# Altium footprint library libx.PcbLib: 18 footprints (part 1 of 2)
Each footprint in its own frame and in the unit in brackets; x right, y up, seen from the top. Pads: shape width x height; smd on the part's side, far side on the other; paste and mask are expansions set on the pad; w line width, h text height; cw(c..) or ccw(c..) is an arc to the next point about the centre after c.
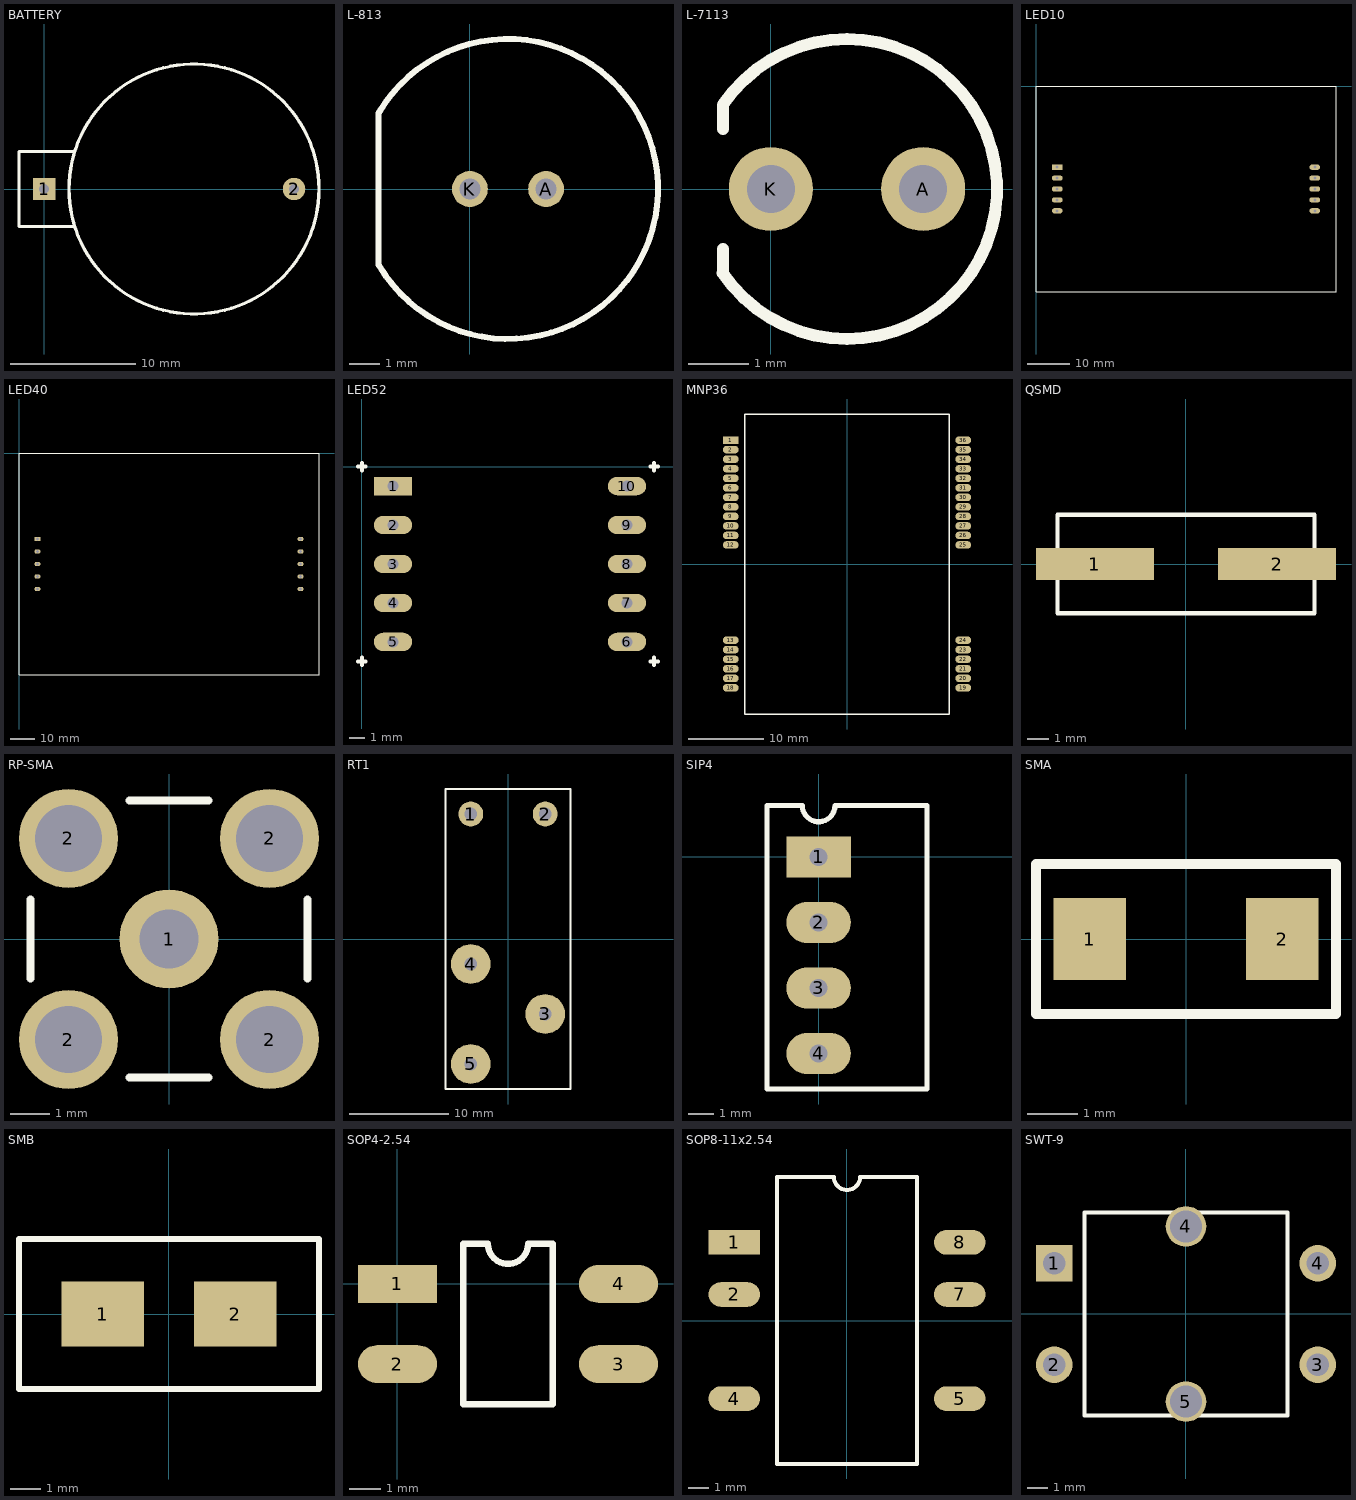
[diagram p0: the footprints below, top view; thin cyan lines are the x and y axes]

## BATTERY [mm]
pads (2):
  rect 1.8x1.8 hole 0.8: 1(0,0)
  round 1.8 hole 0.8: 2(20,0)
Top Overlay:
  circle w0.254: c12,0 r10
  lines w0.254: 2.4,-3 -2,-3 -2,3 2.4,3

## L-813 [mm]
pads (2):
  round 1.2 hole 0.7: A(2.54,0) K(0,0)
Top Overlay:
  lines w0.2: -3.048,-2.54 -3.048,2.54 ; -3.04,2.535 cw(c1.27,0) -3.018,-2.571

## L-7113 [mm]
pads (2):
  round 1.4 hole 0.8: A(2.54,0) K(0,0)
Top Overlay:
  lines w0.2: -0.801,-1.401 ccw(c1.27,0) -0.8,1.402 -0.8,1 ; -0.8,-1.4 -0.8,-1

## LED10 [mm]
pads (10):
  rect 2.5x1.2 hole 0.7: 1(4.95,-18.92)
  oval 2.5x1.2 hole 0.7: 2(4.95,-21.46) 3(4.95,-24) 4(4.95,-26.54) 5(4.95,-29.08) 6(65.05,-29.08) 7(65.05,-26.54) 8(65.05,-24) 9(65.05,-21.46) 10(65.05,-18.92)
Top Overlay:
  lines w0.2: 0,-48 0,0 70,0 70,-48 0,-48
3D body: height 12, standoff 0, extent 0,-48 70,0

## LED40 [mm]
pads (10):
  rect 2.5x1.8 hole 1.1: 1(7.5,-34.84)
  oval 2.5x1.8 hole 1.1: 2(7.5,-39.92) 3(7.5,-45) 4(7.5,-50.08) 5(7.5,-55.16) 6(114.5,-55.16) 7(114.5,-50.08) 8(114.5,-45) 9(114.5,-39.92) 10(114.5,-34.84)
Top Overlay:
  lines w0.2: 0,-90 122,-90 122,0 0,0 0,-90
3D body: height 15, standoff 0, extent 0,-90 122,0

## LED52 [mm]
pads (10):
  rect 2.5x1.2 hole 0.7: 1(2.032,-1.27)
  oval 2.5x1.2 hole 0.7: 2(2.032,-3.81) 3(2.032,-6.35) 4(2.032,-8.89) 5(2.032,-11.43) 6(17.282,-11.43) 7(17.282,-8.89) 8(17.282,-6.35) 9(17.282,-3.81) 10(17.282,-1.27)
Top Overlay:
  lines w0.254: -0.254,-12.7 0.254,-12.7 ; -0.254,0 0.254,0 ; 0,-12.954 0,-12.446 ; 0,-0.254 0,0.254 ; 18.796,-12.7 19.304,-12.7 ; 18.796,0 19.304,0 ; 19.05,-12.954 19.05,-12.446 ; 19.05,-0.254 19.05,0.254
3D body: height 8, standoff 0, extent 0,-12.7 19.05,0

## MNP36 [mm]
pads (36):
  rect 2.1x1 smd: 1(-15.5,16.51)
  oval 2.1x1 smd: 2(-15.5,15.24) 3(-15.5,13.97) 4(-15.5,12.7) 5(-15.5,11.43) 6(-15.5,10.16) 7(-15.5,8.89) 8(-15.5,7.62) 9(-15.5,6.35) 10(-15.5,5.08) 11(-15.5,3.81) 12(-15.5,2.54) 13(-15.5,-10.16) 14(-15.5,-11.43) 15(-15.5,-12.7) 16(-15.5,-13.97) 17(-15.5,-15.24) 18(-15.5,-16.51) 19(15.5,-16.51) 20(15.5,-15.24) 21(15.5,-13.97) 22(15.5,-12.7) 23(15.5,-11.43) 24(15.5,-10.16) 25(15.5,2.54) 26(15.5,3.81) 27(15.5,5.08) 28(15.5,6.35) 29(15.5,7.62) 30(15.5,8.89) 31(15.5,10.16) 32(15.5,11.43) 33(15.5,12.7) 34(15.5,13.97) 35(15.5,15.24) 36(15.5,16.51)
Top Overlay:
  lines w0.2: -13.615,-20 -13.615,20 13.615,20 13.615,-20 -13.615,-20

## QSMD [mm]
pads (2):
  rect 5.5x1.5 smd: 1(-4.25,0) 2(4.25,0)
Top Overlay:
  lines w0.2: -6,-2.3 6,-2.3 6,2.3 -6,2.3 -6,-2.3

## RP-SMA [mm]
pads (5):
  round 2.5 hole 1.5: 1(0,0)
  round 2.5 hole 1.7: 2(-2.54,-2.54) 2(-2.54,2.54) 2(2.54,-2.54) 2(2.54,2.54)
Top Overlay:
  lines w0.2: -3.5,-1 -3.5,1 ; -1,-3.5 1,-3.5 ; -1,3.5 1,3.5 ; 3.5,-1 3.5,1

## RT1 [mm]
pads (5):
  round 2.5 hole 1.3: 1(-3.75,12.6) 2(3.75,12.6)
  round 4 hole 1.3: 3(3.75,-7.56) 4(-3.75,-2.52) 5(-3.75,-12.6)
Top Overlay:
  lines w0.2: -6.3,-15.12 -6.3,15.12 6.3,15.12 6.3,-15.12 -6.3,-15.12

## SIP4 [mm]
pads (4):
  rect 2.5x1.6 hole 0.7: 1(0,0)
  oval 2.5x1.6 hole 0.7: 2(0,-2.54) 3(0,-5.08) 4(0,-7.62)
Top Overlay:
  lines w0.2: -2,-9 -2,2 -0.635,2 ccw(c0,2) 0.635,2 4.2,2 4.2,-9 -2,-9

## SMA [mm]
pads (2):
  rect 1.45x1.65 smd: 1(-1.925,0) 2(1.925,0)
Top Overlay:
  lines w0.2: -3,-1.5 3,-1.5 3,1.5 -3,1.5 -3,-1.5

## SMB [mm]
pads (2):
  rect 2.74x2.16 smd: 1(-2.21,0) 2(2.21,0)
Top Overlay:
  lines w0.2: -5,-2.5 5,-2.5 5,2.5 -5,2.5 -5,0 -5,-2.5

## SOP4-2.54 [mm]
pads (4):
  rect 2.5x1.2 smd: 1(0,0)
  oval 2.5x1.2 smd: 2(0,-2.54) 3(7,-2.54) 4(7,0)
Top Overlay:
  lines w0.2: 2.085,-3.81 4.915,-3.81 4.915,1.27 4.135,1.27 cw(c3.5,1.27) 2.865,1.27 2.085,1.27 2.085,-3.81

## SOP8-11x2.54 [mm]
pads (6):
  rect 2.5x1.2 smd: 1(-5.5,3.81)
  oval 2.5x1.2 smd: 2(-5.5,1.27) 4(-5.5,-3.81) 5(5.5,-3.81) 7(5.5,1.27) 8(5.5,3.81)
Top Overlay:
  lines w0.2: -3.415,-7 -3.415,7 -0.635,7 ccw(c0,7) 0.635,7 3.415,7 3.415,-7 -3.415,-7

## SWT-9 [mm]
pads (6):
  rect 1.8x1.8 hole 1.1: 1(-6.5,2.5)
  round 1.8 hole 1.1: 2(-6.5,-2.5) 3(6.5,-2.5) 4(6.5,2.5)
  round 2 hole 1.6: 4(0,4.318) 5(0,-4.318)
Top Overlay:
  lines w0.2: -5,-5 -5,5 5,5 5,-5 -5,-5